# Altium footprint library Capacitor Electrolytic Snap-In Radial.PcbLib: 97 footprints (part 3 of 7)
Each footprint in its own frame and in the unit in brackets; x right, y up, seen from the top. Pads: shape width x height; smd on the part's side, far side on the other; paste and mask are expansions set on the pad; w line width, h text height; cw(c..) or ccw(c..) is an arc to the next point about the centre after c.
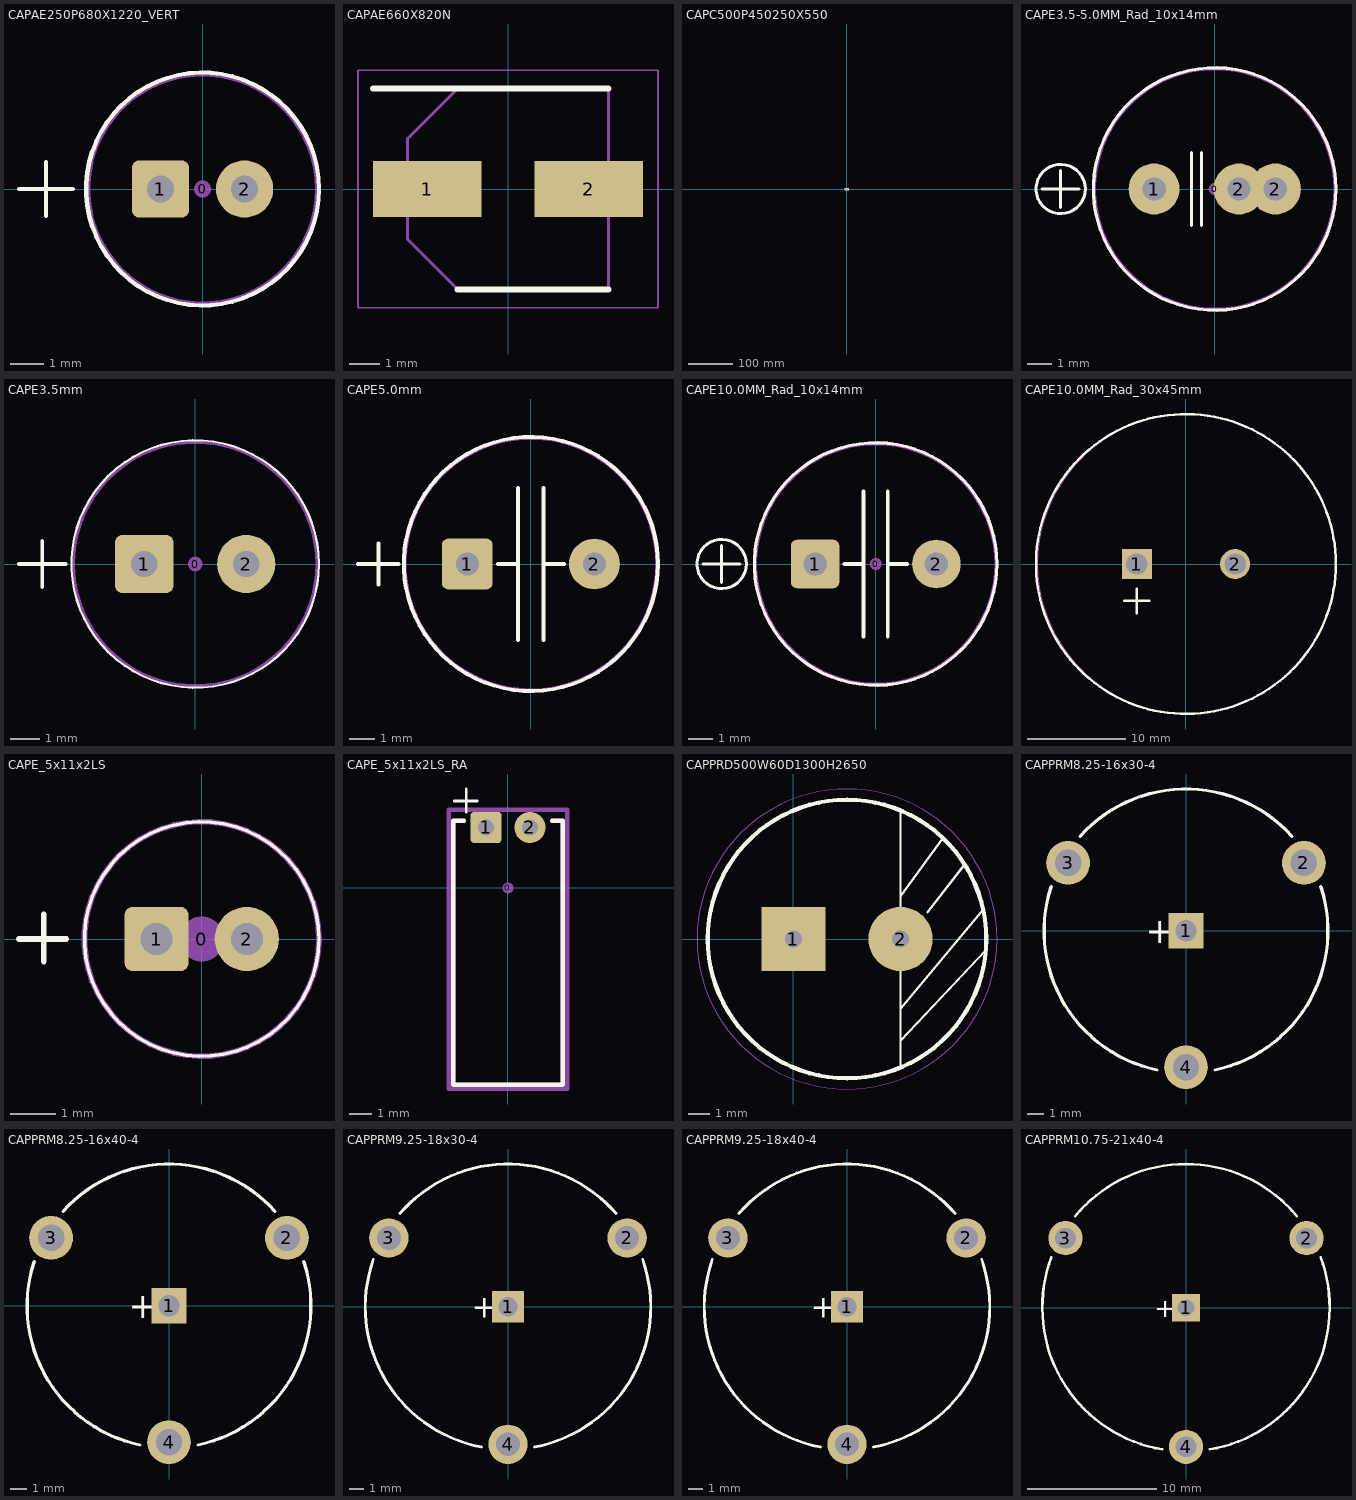
[diagram p2: the footprints below, top view; thin cyan lines are the x and y axes]

## CAPAE250P680X1220_VERT [mm]
height 12.2
pads (3):
  round 0.508 on Mech15: 0(0,0)
  rrect25% 1.7x1.7 hole 0.8: 1(-1.25,0)
  round 1.7 hole 0.8: 2(1.25,0)
Top Overlay:
  circle w0.127: c0,0 r3.459
  lines w0.127: -5.45,0 -3.85,0 ; -4.65,-0.8 -4.65,0.8
Mechanical 13:
  circle w0.127: c0,0 r3.4
3D body "CAPAE250P680X1220_VERT.STEP": height 12.2, standoff -1.78, extent -3.372,-3.372 3.371,3.372

## CAPAE660X820N [mm]
pads (2):
  rect 3.55x1.85 smd: 1(-2.65,0) 2(2.65,0)
Top Overlay:
  lines w0.2: -4.425,3.3 3.3,3.3 ; -1.65,-3.3 3.3,-3.3
Mechanical 13:
  lines w0.1: -3.3,-1.65 -3.3,1.65 -1.65,3.3 3.3,3.3 3.3,-3.3 -1.65,-3.3 -3.3,-1.65
Mechanical 15:
  lines w0.05: -4.925,-3.9 4.925,-3.9 4.925,3.9 -4.925,3.9 -4.925,-3.9
3D body "EMZR250ADA221MF80G.stp": height 8.2, standoff 0, extent -3.7,-3.4 3.7,3.4

## CAPC500P450250X550 [mm] "TDK FK24 radial ceramic capacitor"
height 5.5
pads (3):
  round 0.508 on Mech15: 0(0,0)
  rrect25% 1.905x1.905 hole 0.8: 1(-2.5,0)
  round 1.905 hole 0.8: 2(2.5,0)
Top Overlay:
  lines w0.127: -3.81,-1.27 -3.81,1.27 3.81,1.27 3.81,-1.27 -3.81,-1.27
Mechanical 13:
  lines w0.127: -2.5,-0.3 cw(c-2.5,0) -2.5,0.3 ; -2.25,-0.523 -2.248,-0.511 -2.24,-0.497 -2.227,-0.48 -2.21,-0.461 -2.186,-0.439 -2.157,-0.415 -2.122,-0.387 -2.083,-0.357 -2.046,-0.327 -2.006,-0.292 -1.995,-0.281 -1.983,-0.268 -1.972,-0.254 -1.962,-0.238 -1.958,-0.229 -1.955,-0.218 -1.954,-0.211 -1.953,-0.203 ; -2.25,0.523 cw(c-3.279,-0.727) -1.953,0.203 ; -2.236,-0.718 cw(c-1.896,-0.22) -2.5,-0.217 -2.5,0.217 cw(c-1.896,0.221) -2.232,0.723 -2.23,0.724 -2.206,0.741 ; -2.232,-0.723 -2.225,-0.727 -2.205,-0.742 ; 2.205,0.742 2.225,0.727 2.232,0.723 ; 2.206,-0.741 2.23,-0.724 2.232,-0.723 ccw(c1.896,-0.221) 2.5,-0.217 2.5,0.217 ccw(c1.896,0.22) 2.236,0.718 ; 2.25,-0.523 2.243,-0.502 2.225,-0.477 2.187,-0.44 2.134,-0.397 2.073,-0.349 2.007,-0.293 1.986,-0.271 1.967,-0.246 1.956,-0.223 1.953,-0.203 ; 2.25,0.523 2.24,0.497 2.21,0.461 2.157,0.415 2.083,0.357 2.046,0.327 2.006,0.292 1.983,0.268 1.962,0.238 1.955,0.218 1.953,0.203 ; 2.5,-0.3 ccw(c2.5,0) 2.5,0.3 ; -1.953,-0.203 1.953,-0.203 ; -1.953,-0.203 -1.953,0.203 ; -1.953,0.203 1.953,0.203 ; -1.8,-1.003 cw(c-1.777,-0.913) -1.867,-0.935 cw(c9.111,-1.292) -1.819,-0.203 -1.819,0.203 ccw(c-168.083,-10.401) -1.867,0.935 cw(c-1.777,0.912) -1.8,1.003 ; -1.8,-1.003 cw(c-1.8,-0.553) -2.25,-0.553 -2.25,0.553 cw(c-1.8,0.553) -1.8,1.003 ; -1.8,-1.003 1.8,-1.003 ; -1.8,1.003 1.8,1.003 ; 1.8,-1.003 ccw(c1.777,-0.912) 1.867,-0.935 cw(c168.269,10.414) 1.819,-0.203 1.819,0.203 ccw(c-9.111,1.292) 1.867,0.935 ccw(c1.777,0.913) 1.8,1.003 ; 1.8,-1.003 ccw(c1.8,-0.553) 2.25,-0.553 2.25,0.553 ccw(c1.8,0.553) 1.8,1.003 ; 1.953,-0.203 1.953,0.203
3D body "TDK FK24 ceramic capacitor.STEP": height 5.47, standoff -2.54, extent -2.797,-1.003 2.798,1.003

## CAPE3.5-5.0MM_Rad_10x14mm [mm] "3.5 & 5.0mm Pitch Radial Capacitor 10x14mm DxH"
height 14
pads (4):
  round 0.5 on Mech15: 0(0,0)
  round 2.1 hole 0.965: 1(-2.5,0) 2(1,0) 2(2.5,0)
Top Overlay:
  circle w0.127: c-6.35,0 r1.016
  circle w0.127: c0,0 r5
  lines w0.127: -7.112,0 -5.588,0 ; -6.35,-0.762 -6.35,0.762 ; -0.95,-1.5 -0.95,1.5 ; -0.55,-1.5 -0.55,1.5
Mechanical 13:
  circle w0.127: c0,0 r4.953
Mechanical 15:
  circle w0.127: c0,0 r5
3D body "ElectroCap10x14mm.stp": height 13.99, standoff -3.51, extent -5.25,-5.237 5.206,5.237

## CAPE3.5mm [mm]
pads (3):
  round 0.508 on Mech15: 0(0,0)
  rrect25% 2x2 hole 0.9: 1(-1.75,0)
  round 2 hole 0.9: 2(1.75,0)
Top Overlay:
  circle w0.076: c0,0 r4.25
  lines w0.127: -6.05,0 -4.45,0 ; -5.25,-0.8 -5.25,0.8
Mechanical 13:
  circle w0.127: c0,0 r4.191
3D body: height 7.1, standoff 0.1, extent -4.25,-4.25 4.216,4.233

## CAPE5.0mm [mm]
height 20
pads (2):
  rrect25% 2x2 hole 0.9: 1(-2.5,0)
  round 2 hole 0.9: 2(2.5,0)
Top Overlay:
  circle w0.152: c0,0 r5
  lines w0.152: -6.8,0 -5.2,0 ; -6,-0.8 -6,0.8 ; -1.3,0 -0.5,0 ; -0.5,-3 -0.5,3 ; 0.5,-3 0.5,3 ; 0.5,0 1.3,0
Mechanical 13:
  circle w0.127: c0,-0.003 r4.953
3D body "ElectroCap20x10mm.stp": height 20, standoff -3.5, extent -4.958,-4.968 4.953,4.961

## CAPE10.0MM_Rad_10x14mm [mm] "10mm Pitch Radial Capacitor 10x14mm DxH"
height 14
pads (3):
  round 0.5 on Mech15: 0(0,0)
  rrect25% 2x2 hole 0.965: 1(-2.5,0)
  round 2 hole 0.965: 2(2.5,0)
Top Overlay:
  circle w0.127: c0,0 r5
  circle w0.127: c-6.35,0 r1.016
  lines w0.127: -7.112,0 -5.588,0 ; -6.35,-0.762 -6.35,0.762
  lines w0.152: -1.3,0.003 -0.5,0.003 ; -0.5,-2.997 -0.5,3.003 ; 0.5,-2.997 0.5,3.003 ; 0.5,0.003 1.3,0.003
Mechanical 13:
  circle w0.127: c0,0 r4.953
Mechanical 15:
  circle w0.127: c0,0 r5
3D body "ElectroCap10x14mm.stp": height 13.99, standoff -3.51, extent -5.25,-5.237 5.206,5.237

## CAPE10.0MM_Rad_30x45mm [mil] "10mm Pitch Radial Capacitor"
height 1771.65
pads (2):
  rect 120x120 hole 86: 1(-196.85,0)
  round 120 hole 86: 2(196.85,0)
Top Overlay:
  circle w10: c0,0 r600.39
  lines w10: -246.06,-147.64 -147.64,-147.64 ; -196.85,-196.85 -196.85,-98.43
Mechanical 15:
  circle w5: c3.15,0 r597.8
3D body "ElectroCap45x30mm.stp": height 1771.65, standoff -137.8, extent -585.73,-588.1 589.23,588.11

## CAPE_5x11x2LS [mil] "Capacitor, electrolytic, radial can"
height 433.07
pads (3):
  round 39.37 on Mech15: 0(0,0)
  rrect25% 56x56 hole 28: 1(-39.37,0)
  round 56 hole 28: 2(39.37,0)
Top Overlay:
  circle w3: c0,0 r102.36
  lines w5: -159.45,0 -118.11,0 ; -137.8,-19.68 -137.8,21.65
Mechanical 13:
  circle w5: c0,0 r102.36
3D body "Cap, elec, radial, 5x11x2LS.STEP": height 433.07, standoff -86.61, extent -98.42,-98.42 98.43,98.43

## CAPE_5x11x2LS_RA [mm] "Capacitor, electrolytic, radial can, laid over"
height 5
pads (3):
  round 0.5 on Mech15: 0(0,0)
  rrect25% 1.422x1.422 hole 0.711: 1(-1,2.75)
  round 1.422 hole 0.711: 2(1,2.75)
Top Overlay:
  lines w0.127: -2.45,3.95 -1.4,3.95 ; -1.9,3.45 -1.9,4.5
  lines w0.2: -2,3.05 -2.5,3.05 -2.5,-8.95 0,-8.95 2.5,-8.95 2.5,3.05 2,3.05
Mechanical 13:
  lines w0.2: -2,3.05 -2.5,3.05 -2.5,-8.95 0,-8.95 2.5,-8.95 2.5,3.05 2,3.05
Mechanical 15:
  lines w0.2: -2.7,-9.15 2.7,-9.15 2.7,3.55 -2.7,3.55 -2.7,-9.15
3D body "Cap, elec, radial, 5x11x2LS, RA.STEP": height 5.1, standoff -2.2, extent -2.5,-8.947 2.5,3

## CAPPRD500W60D1300H2650 [mm]
pads (2):
  rect 3x3 hole 0.8: 1(0,0)
  round 3 hole 0.8: 2(5,0)
Top Overlay:
  circle w0.2: c2.5,0 r6.5
  lines w0.1: 5,-6 5,-1.5 ; 5,-4.75 9,-0.5 ; 5,-3.25 8.75,1.25 ; 5,1.5 5,6 ; 5,2 7,4.75 ; 6.25,1.25 8,3.5
Mechanical 13:
  circle w0.1: c2.5,0 r6.5
Mechanical 15:
  circle w0.05: c2.5,0 r7
3D body "UVY1H102MHD.stp": height 26.5, standoff -10, extent -4,-6.497 9,6.497

## CAPPRM8.25-16x30-4 [mm] "Capacitor, Electrolytic, Radial, Solder Ring; Body 16 x 30 mm (Dia.xH typ); Pin Spacing 8.25 mm (typ)"
height 32
pads (4):
  rect 2.15x2.15 hole 1.3: 1(0,0)
  round 2.65 hole 1.6: 2(7.145,4.125) 3(-7.145,4.125) 4(0,-8.25)
Top Overlay:
  lines w0.2: -8.168,2.692 ccw(c0,0) -1.752,-8.42 ; -6.415,5.727 cw(c0,0) 6.415,5.727 ; 1.752,-8.42 ccw(c0,0) 8.168,2.692
  text "+" at -2.45,-0.75 h1.5

## CAPPRM8.25-16x40-4 [mm] "Capacitor, Electrolytic, Radial, Solder Ring; Body 16 x 40 mm (Dia.xH typ); Pin Spacing 8.25 mm (typ)"
height 42
pads (4):
  rect 2.15x2.15 hole 1.3: 1(0,0)
  round 2.65 hole 1.6: 2(7.145,4.125) 3(-7.145,4.125) 4(0,-8.25)
Top Overlay:
  lines w0.2: -8.168,2.692 ccw(c0,0) -1.752,-8.42 ; -6.415,5.727 cw(c0,0) 6.415,5.727 ; 1.752,-8.42 ccw(c0,0) 8.168,2.692
  text "+" at -2.45,-0.75 h1.5

## CAPPRM9.25-18x30-4 [mm] "Capacitor, Electrolytic, Radial, Solder Ring; Body 18 x 30 mm (Dia.xH typ); Pin Spacing 9.25 mm (typ)"
height 32
pads (4):
  rect 2.15x2.15 hole 1.3: 1(0,0)
  round 2.65 hole 1.6: 2(8.011,4.625) 3(-8.011,4.625) 4(0,-9.25)
Top Overlay:
  lines w0.2: -9.062,3.17 ccw(c0,0) -1.786,-9.432 ; -7.276,6.263 cw(c0,0) 7.276,6.263 ; 1.786,-9.432 ccw(c0,0) 9.062,3.17
  text "+" at -2.45,-0.75 h1.5

## CAPPRM9.25-18x40-4 [mm] "Capacitor, Electrolytic, Radial, Solder Ring; Body 18 x 40 mm (Dia.xH typ); Pin Spacing 9.25 mm (typ)"
height 42
pads (4):
  rect 2.15x2.15 hole 1.3: 1(0,0)
  round 2.65 hole 1.6: 2(8.011,4.625) 3(-8.011,4.625) 4(0,-9.25)
Top Overlay:
  lines w0.2: -9.062,3.17 ccw(c0,0) -1.786,-9.432 ; -7.276,6.263 cw(c0,0) 7.276,6.263 ; 1.786,-9.432 ccw(c0,0) 9.062,3.17
  text "+" at -2.45,-0.75 h1.5

## CAPPRM10.75-21x40-4 [mm] "Capacitor, Electrolytic, Radial, Solder Ring; Body 21 x 40 mm (Dia.xH typ); Pin Spacing 10.75 mm (typ)"
height 42
pads (4):
  rect 2.15x2.15 hole 1.3: 1(0,0)
  round 2.65 hole 1.6: 2(9.31,5.375) 3(-9.31,5.375) 4(0,-10.75)
Top Overlay:
  lines w0.2: -10.398,3.883 ccw(c0,0) -1.836,-10.947 ; -8.562,7.064 cw(c0,0) 8.562,7.064 ; 1.836,-10.947 ccw(c0,0) 10.398,3.883
  text "+" at -2.45,-0.75 h1.5